# Altium schematic symbol library LD1117S33CTR.SchLib: 1 symbol
Pins are listed as number, name and electrical type; pins without a type are passive.

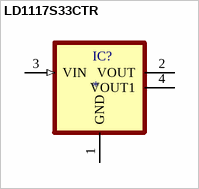
[diagram p0: symbol LD1117S33CTR]

## LD1117S33CTR
designator IC?
Linear Voltage Regulator IC Positive Fixed 1 Output 800mA SOT-223; MF: STMicroelectronics; MP: LD1117S33CTR; SnapEDA_Link: https://www.snapeda.com/parts/LD1117S33CTR/STMicroelectronics/view-part/?ref=snap; Package: SOT-223 STMicroelectronics; Value: *; Check_prices: https://www.snapeda.com/parts/LD1117S33CTR/STMicroelectronics/view-part/?ref=eda
footprint SOT223
pins: 1 GND (power), 2 VOUT (power), 3 VIN (in), 4 VOUT1 (power)